# EAGLE library part 5037630591 (library OBCv4)
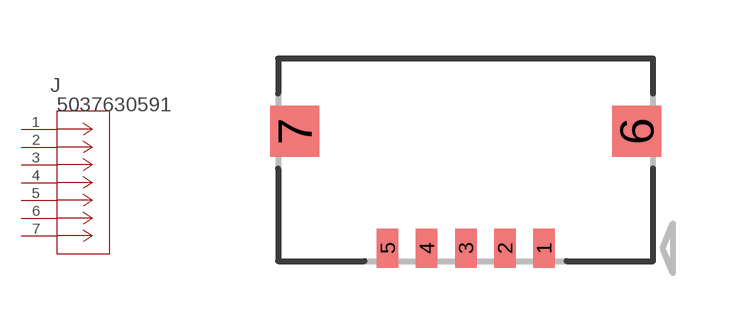
[diagram p4: symbol with the pads of CON_5037630591; footprint CON_5037630591]

Designator prefix J

## 5037630591 (COPYRIGHT: Copyright (C) 2021 Ultra Librarian. All rights reserved.; MANUFACTURER_PART_NUMBER: 5037630591; MFR_NAME: Molex Connector Corporation)  [CON_5037630591]
1  1  pas
2  2  pas
3  3  pas
4  4  pas
5  5  pas
6  6  pas
7  7  pas

## Footprint CON_5037630591 (pad centres in mm)
smd 0.55 x 1: 1 0,0; 2 -1,0; 3 -2,0; 4 -3,0; 5 -4,0
smd 1.26 x 1.3: 6 2.375,2.99; 7 -6.38,2.99